# EAGLE library part IRS2301S (library misc_devices)
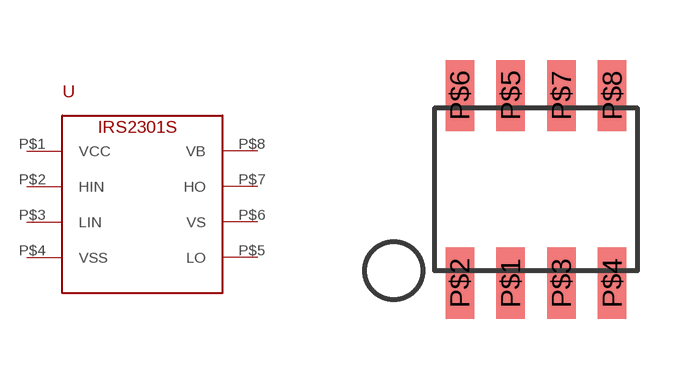
[diagram p0: symbol with the pads of SOIC8; footprint SOIC8]

Designator prefix -

## IRS2301S  [SOIC8]
P$1  VCC
P$2  HIN
P$3  LIN
P$4  VSS
P$5  LO
P$6  VS
P$7  HO
P$8  VB

## Footprint SOIC8 (pad centres in mm)
smd 0.711 x 1.778: P$1 -0.635,-2.349; P$2 -1.905,-2.349; P$3 0.635,-2.349; P$4 1.905,-2.349; P$5 -0.635,2.349; P$6 -1.905,2.349; P$7 0.635,2.349; P$8 1.905,2.349